# EAGLE library part 74099-10 (library con-molex-c-grid)
C-Grid SL
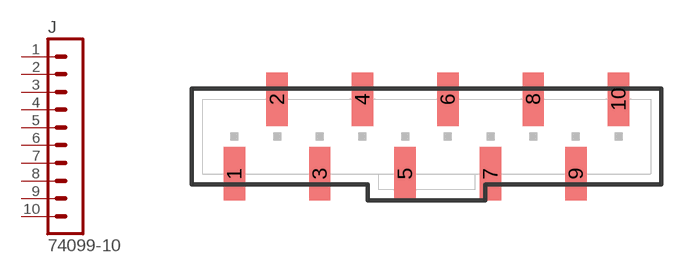
[diagram p44: symbol with the pads of 74099-10; footprint 74099-10]

Designator prefix J

## 74099-10  [74099-10]
1  1  pas
2  2  pas
3  3  pas
4  4  pas
5  5  pas
6  6  pas
7  7  pas
8  8  pas
9  9  pas
10  10  pas

## Footprint 74099-10 (pad centres in mm)
C-Grid SL vertical, SMD
smd 1.27 x 3.175: 1 -11.43,-2.223; 2 -8.89,2.223; 3 -6.35,-2.223; 4 -3.81,2.223; 5 -1.27,-2.223; 6 1.27,2.223; 7 3.81,-2.223; 8 6.35,2.223; 9 8.89,-2.223; 10 11.43,2.223